# Altium footprint library Laird BL652.PcbLib: 6 footprints
Each footprint in its own frame and in the unit in brackets; x right, y up, seen from the top. Pads: shape width x height; smd on the part's side, far side on the other; paste and mask are expansions set on the pad; w line width, h text height; cw(c..) or ccw(c..) is an arc to the next point about the centre after c.
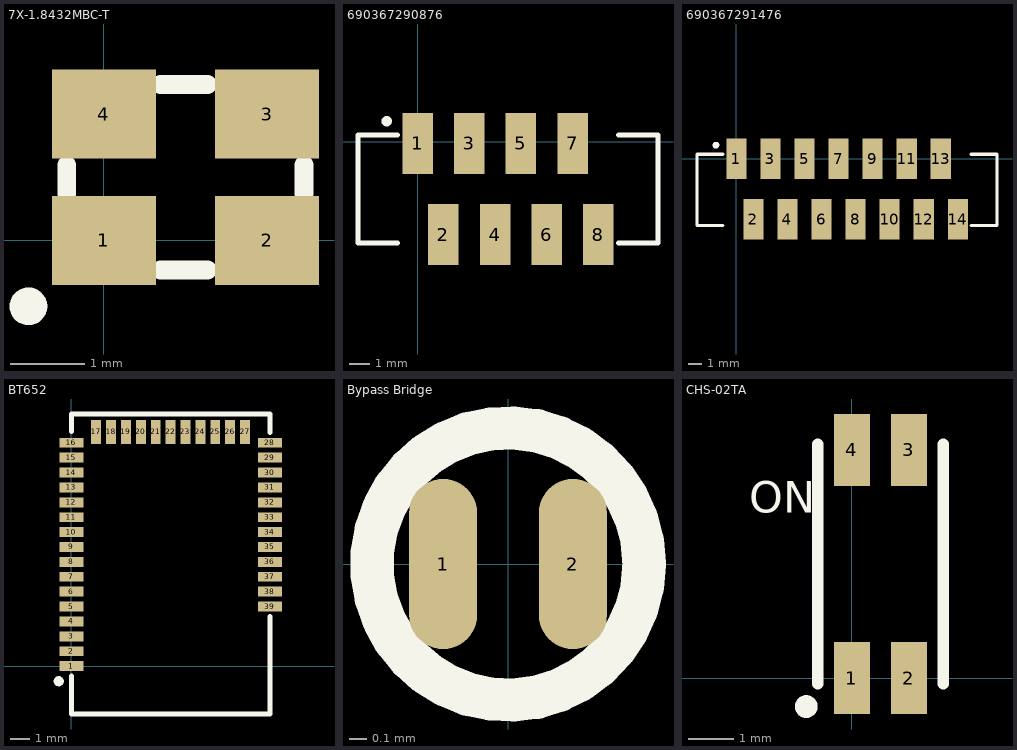
[diagram p0: the footprints below, top view; thin cyan lines are the x and y axes]

## 7X-1.8432MBC-T [mm]
pads (4):
  rect 1.4x1.2 smd: 1(0,0) 2(2.2,0) 3(2.2,1.7) 4(0,1.7)
Top Overlay:
  circle w0.254: c-1.016,-0.889 r0.127
  lines w0.254: -0.5,0.635 -0.5,1.016 ; 0.762,-0.4 1.397,-0.4 ; 0.762,2.1 1.397,2.1 ; 2.7,0.635 2.7,1.016

## 690367290876 [mm] "Würth Elektronic UDE Female SMD Stright Connector"
pads (8):
  rect 1.5x3 smd: 1(0,-0.072) 2(1.27,-4.572) 3(2.54,-0.072) 4(3.81,-4.572) 5(5.08,-0.072) 6(6.35,-4.572) 7(7.62,-0.072) 8(8.89,-4.572)
Top Overlay:
  circle w0.254: c-1.524,1.016 r0.127
  lines w0.254: -1,-4.972 -2.935,-4.972 -2.935,0.328 -1,0.328 ; 9.89,-4.972 11.825,-4.972 11.825,0.328 9.89,0.328

## 690367291476 [mm] "Würth Elektronic UDE Female SMD Stright Connector"
pads (14):
  rect 1.5x3 smd: 1(0,0) 2(1.27,-4.5) 3(2.54,0) 4(3.81,-4.5) 5(5.08,0) 6(6.35,-4.5) 7(7.62,0) 8(8.89,-4.5) 9(10.16,0) 10(11.43,-4.5) 11(12.7,0) 12(13.97,-4.5) 13(15.24,0) 14(16.51,-4.5)
Top Overlay:
  circle w0.254: c-1.524,1.016 r0.127
  lines w0.254: -1,-4.972 -2.935,-4.972 -2.935,0.328 -1,0.328 ; 17.496,-4.972 19.431,-4.972 19.431,0.328 17.496,0.328

## BT652 [mm] "Laird BL652 Bluetooth Module BLE"
pads (39):
  rect 1.2x0.5 smd: 1(0,0) 2(0,0.75) 3(0,1.5) 4(0,2.25) 5(0,3) 6(0,3.75) 7(0,4.5) 8(0,5.25) 9(0,6) 10(0,6.75) 11(0,7.5) 12(0,8.25) 13(0,9) 14(0,9.75) 15(0,10.5) 16(0,11.25) 28(10,11.25) 29(10,10.5) 30(10,9.75) 31(10,9) 32(10,8.25) 33(10,7.5) 34(10,6.75) 35(10,6) 36(10,5.25) 37(10,4.5) 38(10,3.75) 39(10,3)
  rect 0.5x1.2 smd: 17(1.25,11.8) 18(2,11.8) 19(2.75,11.8) 20(3.5,11.8) 21(4.25,11.8) 22(5,11.8) 23(5.75,11.8) 24(6.5,11.8) 25(7.25,11.8) 26(8,11.8) 27(8.75,11.8)
Top Overlay:
  circle w0.254: c-0.635,-0.762 r0.127
  lines w0.254: 0,-0.508 0,-2.413 10,-2.413 10,2.38 10,2.507 ; 0,11.811 0,12.7 10,12.7 10,11.778
3D body: height 2.1, standoff 0, extent 0,-2.301 10,11.699

## Bypass Bridge [mm]
pads (2):
  oval 0.4x1 smd: 1(-0.381,0) 2(0.381,0)
Top Overlay:
  circle w0.254: c0,0 r0.8

## CHS-02TA [mm]
pads (4):
  rect 0.8x1.6 smd: 1(0,0) 2(1.27,0) 3(1.27,5.08) 4(0,5.08)
Top Overlay:
  circle w0.254: c-1.016,-0.635 r0.127
  lines w0.254: -0.762,-0.127 -0.762,5.207 ; 2.032,-0.127 2.032,5.207
  text "ON" at -2.286,3.683 h0.7